# EAGLE library part TPS62056DGS (library pro3E)
SYNCHRONOUS STEP-DOWN CONVERTER
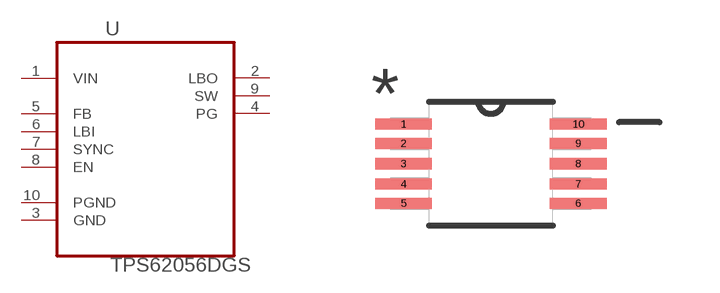
[diagram p5: symbol with the pads of SOP50P490X110-10N; footprint SOP50P490X110-10N]

Designator prefix U

## TPS62056DGS (MPN: TPS62056DGS; OC_FARNELL: 8457999; OC_NEWARK: 35K5019; PACKAGE: MSOP-10; SUPPLIER: Texas Instruments)  [SOP50P490X110-10N]
1  VIN  pwr
2  LBO  out
3  GND  pas
4  PG  out
5  FB  in
6  LBI  in
7  SYNC  in
8  EN  in
9  SW  out
10  PGND  pas

## Footprint SOP50P490X110-10N (pad centres in mm)
smd 1.422 x 0.279: 1 -2.184,0.991; 2 -2.184,0.508; 3 -2.184,0; 4 -2.184,-0.508; 5 -2.184,-0.991; 6 2.184,-0.991; 7 2.184,-0.508; 8 2.184,0; 9 2.184,0.508; 10 2.184,0.991